# Altium footprint library CloudTainer.PcbLib: 17 footprints (part 2 of 2)
Each footprint in its own frame and in the unit in brackets; x right, y up, seen from the top. Pads: shape width x height; smd on the part's side, far side on the other; paste and mask are expansions set on the pad; w line width, h text height; cw(c..) or ccw(c..) is an arc to the next point about the centre after c.
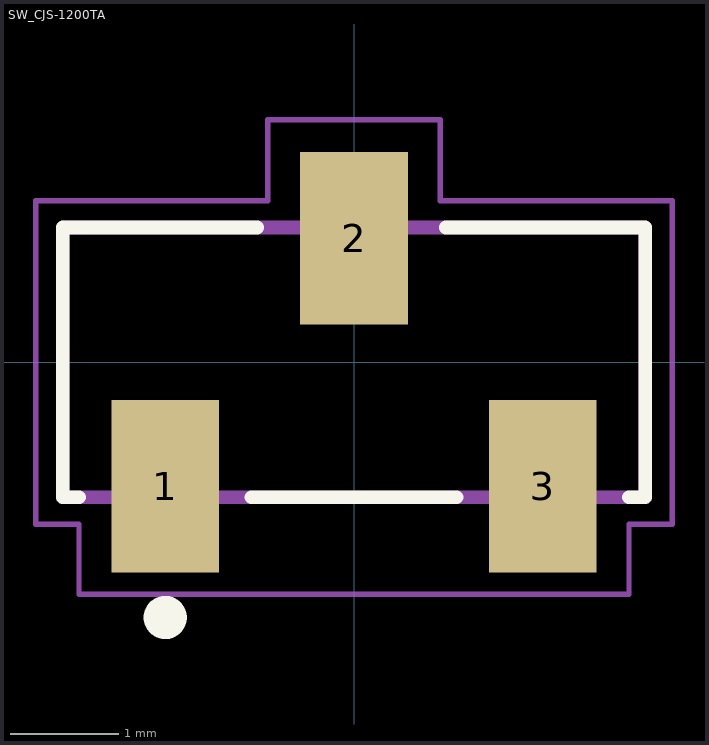
[diagram p1: the footprint, top view; thin cyan lines are the x and y axes]

## SW_CJS-1200TA [mm]
pads (3):
  rect 1x1.6 smd: 1(-1.75,-1.15) 2(0,1.15) 3(1.75,-1.15)
Top Overlay:
  circle w0.2: c-1.75,-2.365 r0.1
  lines w0.127: -2.55,-1.25 -2.7,-1.25 -2.7,1.25 -0.9,1.25 ; -0.95,-1.25 0.95,-1.25 ; 0.85,1.25 2.7,1.25 2.7,-1.25 2.55,-1.25
Mechanical 13:
  lines w0.127: -2.7,-1.25 2.7,-1.25 2.7,1.25 -2.7,1.25 -2.7,-1.25
Mechanical 15:
  lines w0.05: -2.95,-1.5 -2.55,-1.5 -2.55,-2.15 2.55,-2.15 2.55,-1.5 2.95,-1.5 2.95,1.5 0.8,1.5 0.8,2.25 -0.8,2.25 -0.8,1.5 -2.95,1.5 -2.95,-1.5
3D body "step_temp.STEP": height 2.5, standoff 0, extent -2.7,-1.4 2.7,1.4